# EAGLE library part R5F64189DFD (library samuel)
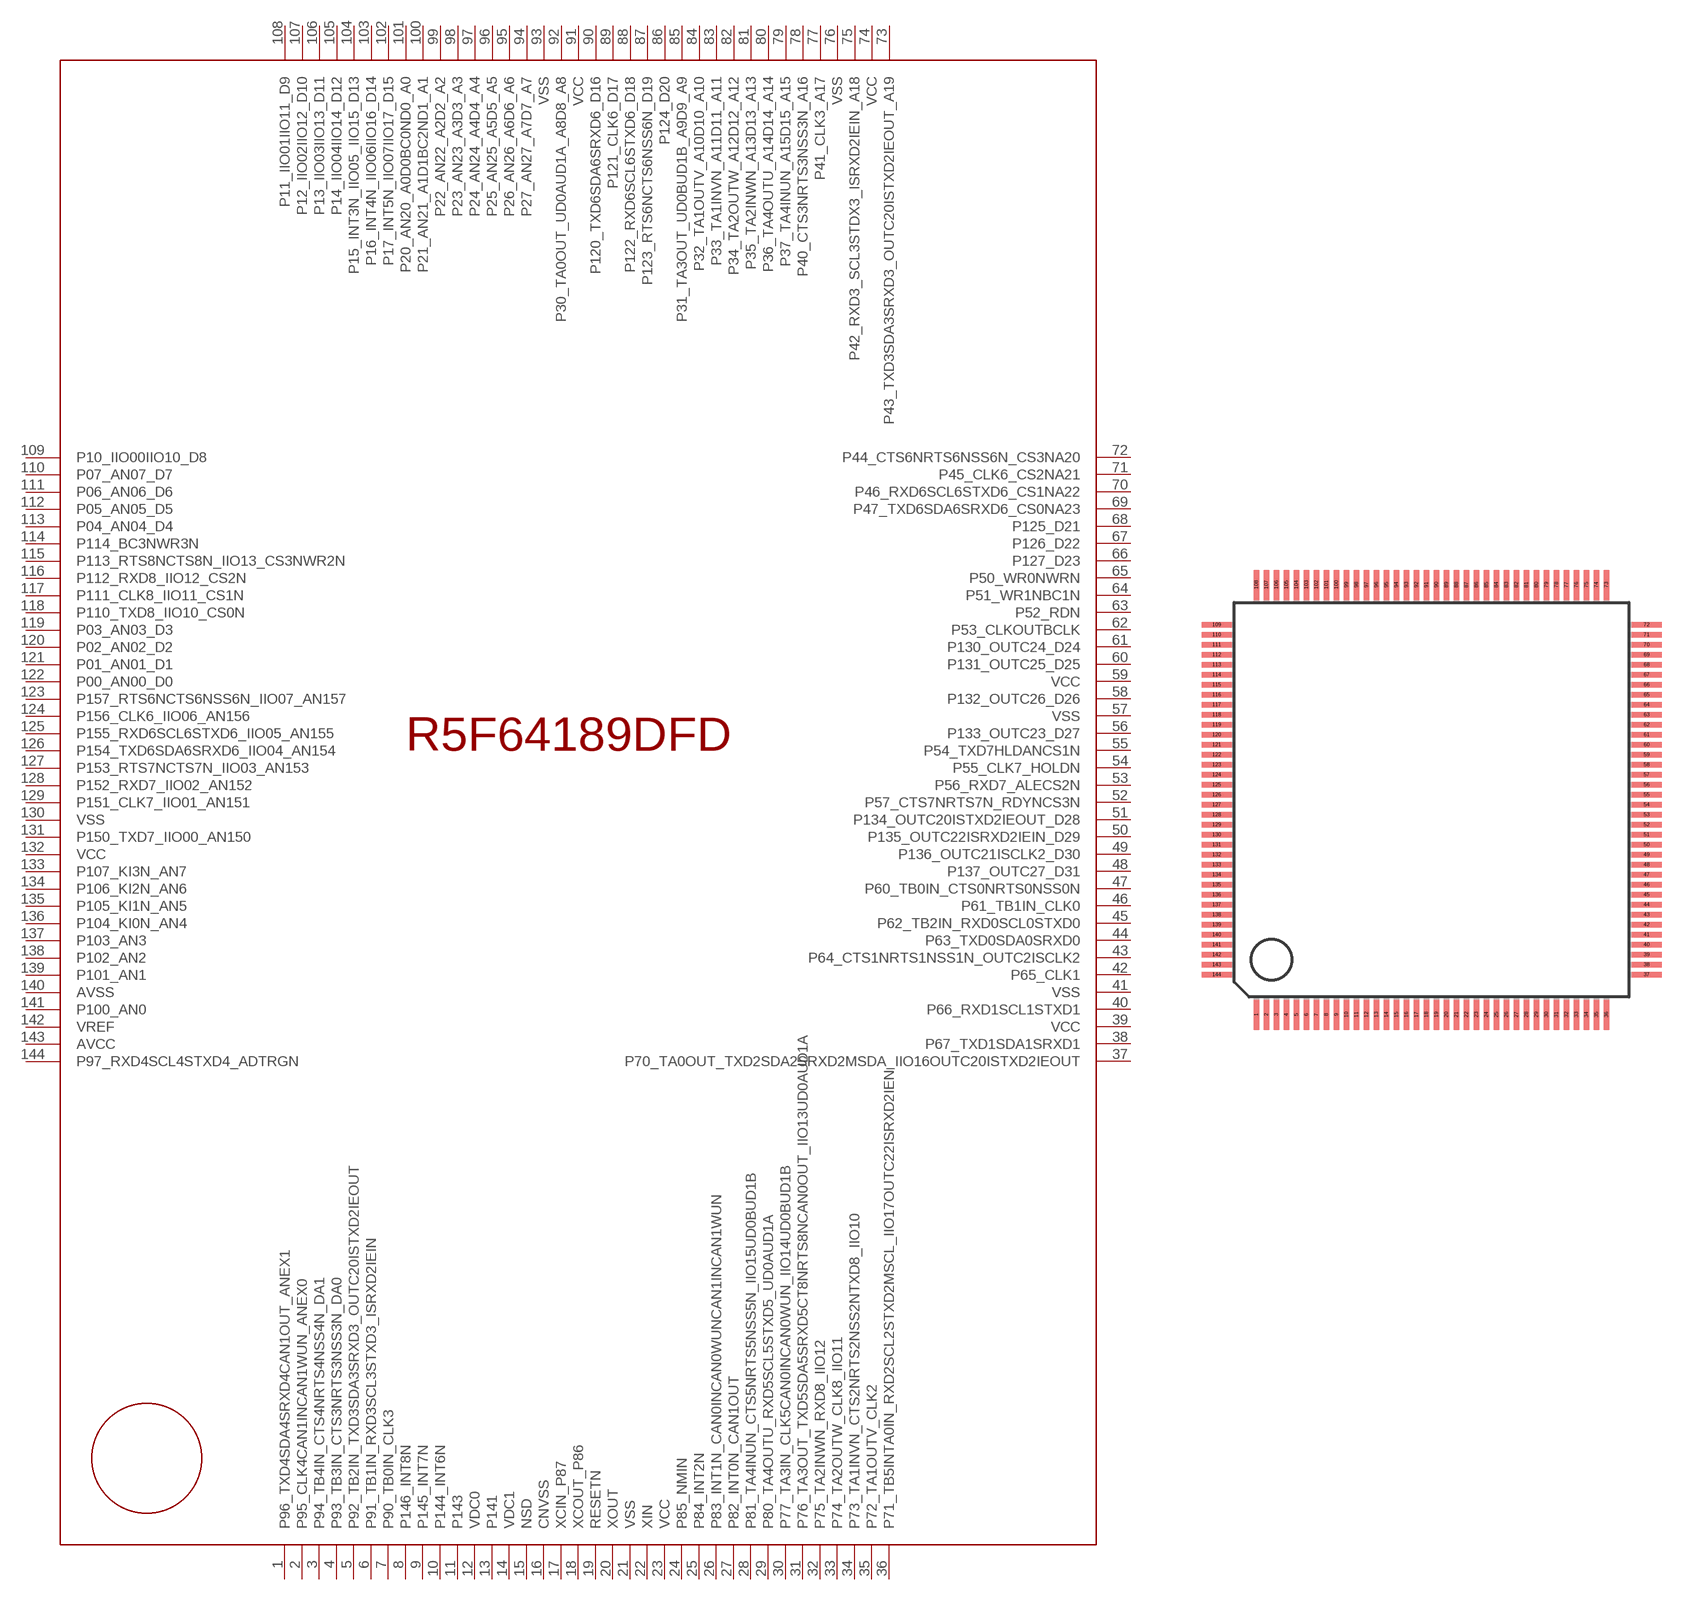
[diagram p1: symbol with the pads of TQFP144; footprint TQFP144]

Designator prefix -

## R5F64189DFD  [TQFP144]
1  P96_TXD4SDA4SRXD4CAN1OUT_ANEX1
2  P95_CLK4CAN1INCAN1WUN_ANEX0
3  P94_TB4IN_CTS4NRTS4NSS4N_DA1
4  P93_TB3IN_CTS3NRTS3NSS3N_DA0
5  P92_TB2IN_TXD3SDA3SRXD3_OUTC20ISTXD2IEOUT
6  P91_TB1IN_RXD3SCL3STXD3_ISRXD2IEIN
7  P90_TB0IN_CLK3
8  P146_INT8N
9  P145_INT7N
10  P144_INT6N
11  P143
12  VDC0
13  P141
14  VDC1
15  NSD
16  CNVSS
17  XCIN_P87
18  XCOUT_P86
19  RESETN
20  XOUT
21  VSS
22  XIN
23  VCC
24  P85_NMIN
25  P84_INT2N
26  P83_INT1N_CAN0INCAN0WUNCAN1INCAN1WUN
27  P82_INT0N_CAN1OUT
28  P81_TA4INUN_CTS5NRTS5NSS5N_IIO15UD0BUD1B
29  P80_TA4OUTU_RXD5SCL5STXD5_UD0AUD1A
30  P77_TA3IN_CLK5CAN0INCAN0WUN_IIO14UD0BUD1B
31  P76_TA3OUT_TXD5SDA5SRXD5CT8NRTS8NCAN0OUT_IIO13UD0AUD1A
32  P75_TA2INWN_RXD8_IIO12
33  P74_TA2OUTW_CLK8_IIO11
34  P73_TA1INVN_CTS2NRTS2NSS2NTXD8_IIO10
35  P72_TA1OUTV_CLK2
36  P71_TB5INTA0IN_RXD2SCL2STXD2MSCL_IIO17OUTC22ISRXD2IEN
37  P70_TA0OUT_TXD2SDA2SRXD2MSDA_IIO16OUTC20ISTXD2IEOUT
38  P67_TXD1SDA1SRXD1
39  VCC
40  P66_RXD1SCL1STXD1
41  VSS
42  P65_CLK1
43  P64_CTS1NRTS1NSS1N_OUTC2ISCLK2
44  P63_TXD0SDA0SRXD0
45  P62_TB2IN_RXD0SCL0STXD0
46  P61_TB1IN_CLK0
47  P60_TB0IN_CTS0NRTS0NSS0N
48  P137_OUTC27_D31
49  P136_OUTC21ISCLK2_D30
50  P135_OUTC22ISRXD2IEIN_D29
51  P134_OUTC20ISTXD2IEOUT_D28
52  P57_CTS7NRTS7N_RDYNCS3N
53  P56_RXD7_ALECS2N
54  P55_CLK7_HOLDN
55  P54_TXD7HLDANCS1N
56  P133_OUTC23_D27
57  VSS
58  P132_OUTC26_D26
59  VCC
60  P131_OUTC25_D25
61  P130_OUTC24_D24
62  P53_CLKOUTBCLK
63  P52_RDN
64  P51_WR1NBC1N
65  P50_WR0NWRN
66  P127_D23
67  P126_D22
68  P125_D21
69  P47_TXD6SDA6SRXD6_CS0NA23
70  P46_RXD6SCL6STXD6_CS1NA22
71  P45_CLK6_CS2NA21
72  P44_CTS6NRTS6NSS6N_CS3NA20
73  P43_TXD3SDA3SRXD3_OUTC20ISTXD2IEOUT_A19
74  VCC
75  P42_RXD3_SCL3STDX3_ISRXD2IEIN_A18
76  VSS
77  P41_CLK3_A17
78  P40_CTS3NRTS3NSS3N_A16
79  P37_TA4INUN_A15D15_A15
80  P36_TA4OUTU_A14D14_A14
81  P35_TA2INWN_A13D13_A13
82  P34_TA2OUTW_A12D12_A12
83  P33_TA1INVN_A11D11_A11
84  P32_TA1OUTV_A10D10_A10
85  P31_TA3OUT_UD0BUD1B_A9D9_A9
86  P124_D20
87  P123_RTS6NCTS6NSS6N_D19
88  P122_RXD6SCL6STXD6_D18
89  P121_CLK6_D17
90  P120_TXD6SDA6SRXD6_D16
91  VCC
92  P30_TA0OUT_UD0AUD1A_A8D8_A8
93  VSS
94  P27_AN27_A7D7_A7
95  P26_AN26_A6D6_A6
96  P25_AN25_A5D5_A5
97  P24_AN24_A4D4_A4
98  P23_AN23_A3D3_A3
99  P22_AN22_A2D2_A2
100  P21_AN21_A1D1BC2ND1_A1
101  P20_AN20_A0D0BC0ND0_A0
102  P17_INT5N_IIO07IIO17_D15
103  P16_INT4N_IIO06IIO16_D14
104  P15_INT3N_IIO05_IIO15_D13
105  P14_IIO04IIO14_D12
106  P13_IIO03IIO13_D11
107  P12_IIO02IIO12_D10
108  P11_IIO01IIO11_D9
109  P10_IIO00IIO10_D8
110  P07_AN07_D7
111  P06_AN06_D6
112  P05_AN05_D5
113  P04_AN04_D4
114  P114_BC3NWR3N
115  P113_RTS8NCTS8N_IIO13_CS3NWR2N
116  P112_RXD8_IIO12_CS2N
117  P111_CLK8_IIO11_CS1N
118  P110_TXD8_IIO10_CS0N
119  P03_AN03_D3
120  P02_AN02_D2
121  P01_AN01_D1
122  P00_AN00_D0
123  P157_RTS6NCTS6NSS6N_IIO07_AN157
124  P156_CLK6_IIO06_AN156
125  P155_RXD6SCL6STXD6_IIO05_AN155
126  P154_TXD6SDA6SRXD6_IIO04_AN154
127  P153_RTS7NCTS7N_IIO03_AN153
128  P152_RXD7_IIO02_AN152
129  P151_CLK7_IIO01_AN151
130  VSS
131  P150_TXD7_IIO00_AN150
132  VCC
133  P107_KI3N_AN7
134  P106_KI2N_AN6
135  P105_KI1N_AN5
136  P104_KI0N_AN4
137  P103_AN3
138  P102_AN2
139  P101_AN1
140  AVSS
141  P100_AN0
142  VREF
143  AVCC
144  P97_RXD4SCL4STXD4_ADTRGN

## Footprint TQFP144 (pad centres in mm)
Thin Quad Flat Pack
smd 0.27 x 1.5: 1 -8.75,-10.75; 2 -8.25,-10.75; 3 -7.75,-10.75; 4 -7.25,-10.75; 5 -6.75,-10.75; 6 -6.25,-10.75; 7 -5.75,-10.75; 8 -5.25,-10.75; 9 -4.75,-10.75; 10 -4.25,-10.75; 11 -3.75,-10.75; 12 -3.25,-10.75; 13 -2.75,-10.75; 14 -2.25,-10.75; 15 -1.75,-10.75; 16 -1.25,-10.75; 17 -0.75,-10.75; 18 -0.25,-10.75; 19 0.25,-10.75; 20 0.75,-10.75; 21 1.25,-10.75; 22 1.75,-10.75; 23 2.25,-10.75; 24 2.75,-10.75; 25 3.25,-10.75; 26 3.75,-10.75; 27 4.25,-10.75; 28 4.75,-10.75; 29 5.25,-10.75; 30 5.75,-10.75; 31 6.25,-10.75; 32 6.75,-10.75; 33 7.25,-10.75; 34 7.75,-10.75; 35 8.25,-10.75; 36 8.75,-10.75; 73 8.75,10.75; 74 8.25,10.75; 75 7.75,10.75; 76 7.25,10.75; 77 6.75,10.75; 78 6.25,10.75; 79 5.75,10.75; 80 5.25,10.75; 81 4.75,10.75; 82 4.25,10.75; 83 3.75,10.75; 84 3.25,10.75; 85 2.75,10.75; 86 2.25,10.75; 87 1.75,10.75; 88 1.25,10.75; 89 0.75,10.75; 90 0.25,10.75; 91 -0.25,10.75; 92 -0.75,10.75; 93 -1.25,10.75; 94 -1.75,10.75; 95 -2.25,10.75; 96 -2.75,10.75; 97 -3.25,10.75; 98 -3.75,10.75; 99 -4.25,10.75; 100 -4.75,10.75; 101 -5.25,10.75; 102 -5.75,10.75; 103 -6.25,10.75; 104 -6.75,10.75; 105 -7.25,10.75; 106 -7.75,10.75; 107 -8.25,10.75; 108 -8.75,10.75
smd 1.5 x 0.27: 37 10.75,-8.75; 38 10.75,-8.25; 39 10.75,-7.75; 40 10.75,-7.25; 41 10.75,-6.75; 42 10.75,-6.25; 43 10.75,-5.75; 44 10.75,-5.25; 45 10.75,-4.75; 46 10.75,-4.25; 47 10.75,-3.75; 48 10.75,-3.25; 49 10.75,-2.75; 50 10.75,-2.25; 51 10.75,-1.75; 52 10.75,-1.25; 53 10.75,-0.75; 54 10.75,-0.25; 55 10.75,0.25; 56 10.75,0.75; 57 10.75,1.25; 58 10.75,1.75; 59 10.75,2.25; 60 10.75,2.75; 61 10.75,3.25; 62 10.75,3.75; 63 10.75,4.25; 64 10.75,4.75; 65 10.75,5.25; 66 10.75,5.75; 67 10.75,6.25; 68 10.75,6.75; 69 10.75,7.25; 70 10.75,7.75; 71 10.75,8.25; 72 10.75,8.75; 109 -10.75,8.75; 110 -10.75,8.25; 111 -10.75,7.75; 112 -10.75,7.25; 113 -10.75,6.75; 114 -10.75,6.25; 115 -10.75,5.75; 116 -10.75,5.25; 117 -10.75,4.75; 118 -10.75,4.25; 119 -10.75,3.75; 120 -10.75,3.25; 121 -10.75,2.75; 122 -10.75,2.25; 123 -10.75,1.75; 124 -10.75,1.25; 125 -10.75,0.75; 126 -10.75,0.25; 127 -10.75,-0.25; 128 -10.75,-0.75; 129 -10.75,-1.25; 130 -10.75,-1.75; 131 -10.75,-2.25; 132 -10.75,-2.75; 133 -10.75,-3.25; 134 -10.75,-3.75; 135 -10.75,-4.25; 136 -10.75,-4.75; 137 -10.75,-5.25; 138 -10.75,-5.75; 139 -10.75,-6.25; 140 -10.75,-6.75; 141 -10.75,-7.25; 142 -10.75,-7.75; 143 -10.75,-8.25; 144 -10.75,-8.75